# EAGLE library part AS5145 (library ic-ams)
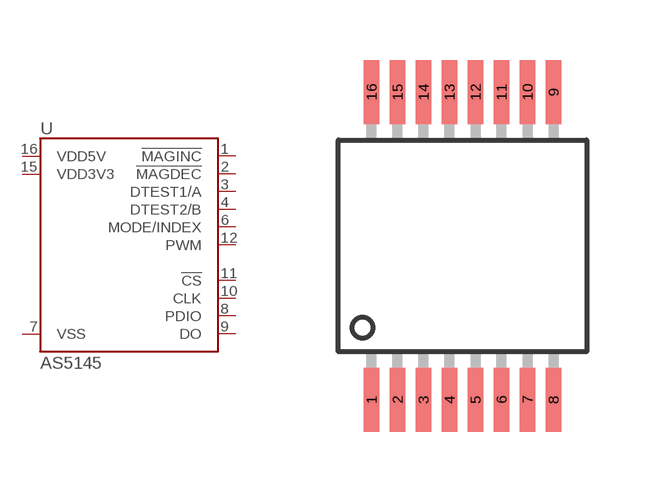
[diagram p1: symbol with the pads of SSOP16; footprint SSOP16]

Designator prefix U

## AS5145A, AS5145B, AS5145H  [SSOP16]
1  !MAGINC
2  !MAGDEC
3  DTEST1/A
4  DTEST2/B
6  MODE/INDEX
7  VSS
8  PDIO
9  DO
10  CLK
11  !CS
12  PWM
15  VDD3V3
16  VDD5V

## Footprint SSOP16 (pad centres in mm)
smd 0.381 x 1.6: 1 -2.275,-3.85; 2 -1.625,-3.85; 3 -0.975,-3.85; 4 -0.325,-3.85; 5 0.325,-3.85; 6 0.975,-3.85; 7 1.625,-3.85; 8 2.275,-3.85; 9 2.275,3.85; 10 1.625,3.85; 11 0.975,3.85; 12 0.325,3.85; 13 -0.325,3.85; 14 -0.975,3.85; 15 -1.625,3.85; 16 -2.275,3.85